# Altium footprint library KK_Triangle_cubic.PcbLib: 16 footprints
Each footprint in its own frame and in the unit in brackets; x right, y up, seen from the top. Pads: shape width x height; smd on the part's side, far side on the other; paste and mask are expansions set on the pad; w line width, h text height; cw(c..) or ccw(c..) is an arc to the next point about the centre after c.
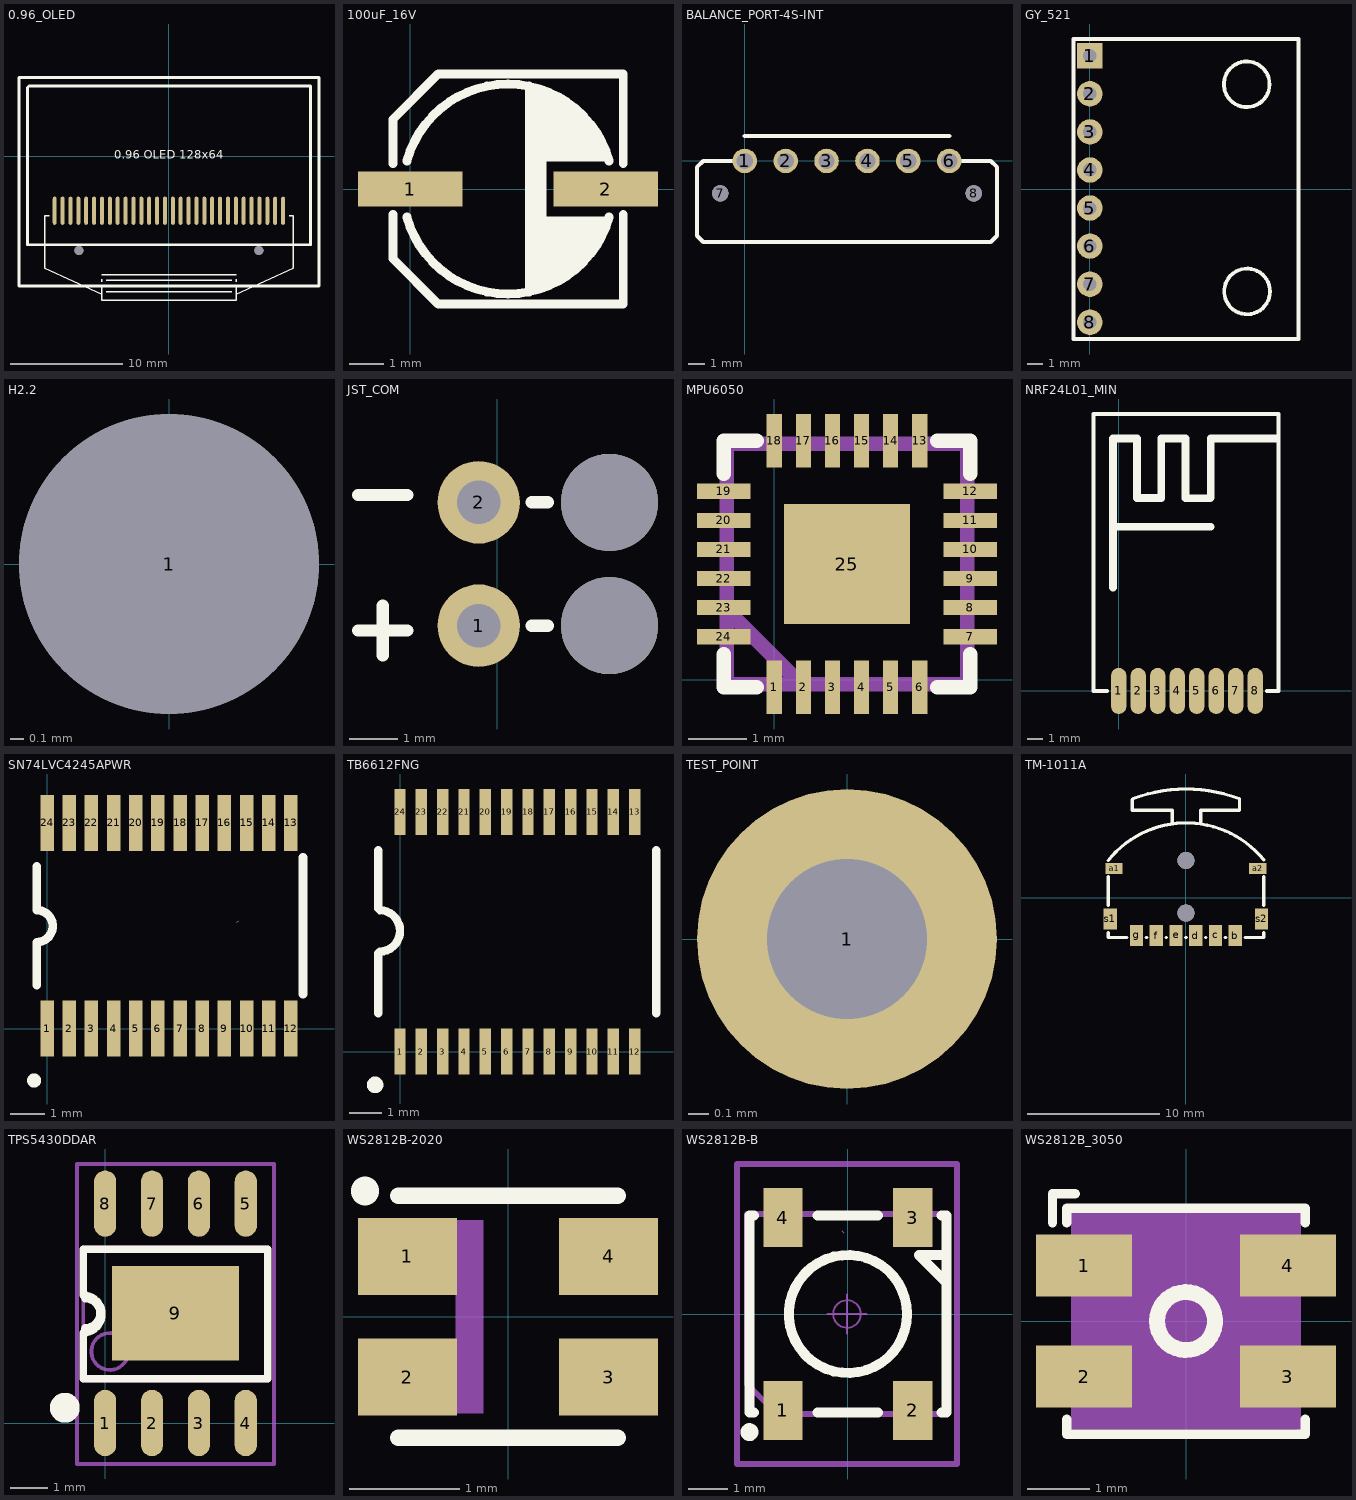
[diagram p0: the footprints below, top view; thin cyan lines are the x and y axes]

## 0.96_OLED [mm] "QG-2864KSWEG01"
pads (32):
  oval 0.351x2.499 smd: 1(-10.149,-4.824) 2(-9.449,-4.826) 3(-8.749,-4.826) 4(-8.049,-4.826) 5(-7.349,-4.826) 6(-6.649,-4.826) 7(-5.949,-4.826) 8(-5.25,-4.826) 9(-4.55,-4.826) 10(-3.85,-4.826) 11(-3.15,-4.826) 12(-2.45,-4.826) 13(-1.75,-4.826) 14(-1.05,-4.826) 15(-0.35,-4.826) 16(0.35,-4.826) 17(1.05,-4.826) 18(1.75,-4.826) 19(2.45,-4.826) 20(3.15,-4.826) 21(3.85,-4.826) 22(4.55,-4.826) 23(5.25,-4.826) 24(5.949,-4.826) 25(6.649,-4.826) 26(7.349,-4.826) 27(8.049,-4.826) 28(8.749,-4.828) 29(9.449,-4.829) 30(10.149,-4.829)
  round 0.8 hole 0.8 unplated: ""(-8,-8.358) ""(8,-8.358)
Top Overlay:
  lines w0: -11.038,-8.825 -11.038,-8.812 -11.038,-8.825
  lines w0.127: -11.038,-8.825 -11.038,-9.917 -5.958,-12.243 ; -11.038,-8.812 -11.038,-5.256 -10.657,-5.256 ; -5.958,-11.53 -5.958,-12.8 5.98,-12.8 5.98,-11.53 ; -5.958,-11.149 -5.958,-10.895 ; -5.958,-10.514 5.98,-10.514 ; -5.577,-12.038 5.599,-12.038 ; -5.577,-11.022 5.599,-11.022 ; 5.98,-12.243 11.06,-9.92 11.06,-9.906 11.06,-8.814 11.06,-8.812 11.06,-5.256 10.679,-5.256 ; 5.98,-11.149 5.98,-10.895
  lines w0.254: -13.324,-11.53 13.346,-11.53 13.346,7.012 -13.324,7.012 -13.324,-11.53 ; -12.562,-7.847 12.584,-7.847 12.584,6.25 -12.435,6.25 -12.562,6.123 -12.562,-7.553 -12.562,-7.847
  text "0.96 OLED 128x64" at -4.851,-0.483 h1.27

## 100uF_16V [mm] "CAP-SMD_BD6.3-L6.6-W6.6-FD"
pads (2):
  rect 3x1 smd: 1(0,0) 2(5.6,0)
Top Overlay:
  region: 3.3,-3 3.3,2.9 3.3,3 3.3,2.9 3.9,2.8 4.4,2.6 4.7,2.3 5,2.1 5.3,1.8 5.5,1.4 5.7,0.8 3.9,0.8 3.9,-0.8 5.7,-0.8 5.6,-1 5.5,-1.4 5.2,-1.7 5,-2.1 4.6,-2.4 4.2,-2.6 3.8,-2.8
  lines w0.254: -0.497,-0.732 -0.497,-1.999 0.804,-3.299 6.102,-3.299 6.102,-0.732 ; -0.497,0.732 -0.497,1.999 0.804,3.299 6.102,3.299 6.102,0.732 ; -0.1,-0.8 ccw(c2.8,0) 5.7,-0.8 ; -0.1,0.8 cw(c2.8,0) 5.7,0.8
Mechanical 15:
  lines w0.003: 4.426,0.102 4.476,0.152

## BALANCE_PORT-4S-INT [mm] "BALANCE_PORT-4S-INT"
pads (8):
  round 1.5 hole 1 unplated: 1(0,0) 2(2.5,0) 3(5,0) 4(7.5,0) 5(10,0) 6(12.5,0)
  round 1 hole 1 unplated: 7(-1.5,-1.98) 8(14,-1.98)
Top Overlay:
  lines w0.254: 0,1.524 12.5,1.524 ; 0.635,0 -0.762,0 -1.905,0 -2.54,0 -2.921,-0.381 -2.921,-4.572 -2.54,-4.953 3.175,-4.953 12.573,-4.953 ; 12.5,-4.953 15.04,-4.953 15.421,-4.572 15.421,-0.381 15.04,0 12.5,0

## GY_521 [mm] "MPU6050"
pads (8):
  rect 1.7x1.7 hole 0.9: 1(0,8.89)
  round 1.7 hole 0.9: 2(0,6.35) 3(0,3.81) 4(0,1.27) 5(0,-1.27) 6(0,-3.81) 7(0,-6.35) 8(0,-8.89)
Top Overlay:
  circle w0.254: c10.465,6.985 r1.524
  circle w0.254: c10.49,-6.833 r1.524
  lines w0.254: -1.092,-10.008 13.919,-10.008 13.919,10.008 -1.092,10.008 -1.092,-10.008

## H2.2 [mm] "H2.5"
pads (1):
  round 2.2 hole 2.2: 1(0,0)

## JST_COM [mm] "JST_COM"
pads (4):
  round 1.7 hole 0.9: 1(-0.381,17.932) 2(-0.381,20.472)
  round 2 hole 2: ""(2.311,17.932) ""(2.311,20.472)
Top Overlay:
  lines w0.254: -2.87,17.831 -1.854,17.831 ; -2.87,20.625 -1.854,20.625 ; -2.362,17.323 -2.362,18.339 ; 0.711,17.932 1.041,17.932 ; 0.711,20.472 1.041,20.472

## MPU6050 [mil] "QFN50P400X400X95-25T265X275N"
pads (25):
  rect 10.2x36.1 smd: 1(0,-5) 2(19.6,-5) 3(39.2,-5) 4(58.8,-5) 5(78.4,-5) 6(98,-5) 13(98,161) 14(78.4,161) 15(58.8,161) 16(39.2,161) 17(19.6,161) 18(0,161)
  rect 36.1x10.2 smd: 7(132,29) 8(132,48.6) 9(132,68.2) 10(132,87.8) 11(132,107.4) 12(132,127) 19(-34,127) 20(-34,107.4) 21(-34,87.8) 22(-34,68.2) 23(-34,48.6) 24(-34,29)
  rect 84.6x80.65 smd: 25(49,77.97)
Top Overlay:
  lines w10: -34,17 -34,-5 -12,-5 ; -34,139 -34,161 -12,161 ; 110,-5 132,-5 132,17 ; 110,161 132,161 132,139
Mechanical 15:
  lines w10: -32,47 18,-3 ; -32,47 -32,159 130,159 130,-3 18,-3 ; -32,47 -32,-3 18,-3

## NRF24L01_MIN [mm] "NRF24L01_MIN"
pads (8):
  oval 1x3 smd: 1(0,0) 2(1.27,0) 3(2.54,0) 4(3.81,0) 5(5.08,0) 6(6.35,0) 7(7.62,0) 8(8.89,0)
Top Overlay:
  lines w0.254: -1.651,0 -1.651,11.5 ; -1.651,11.43 -1.651,18.034 10.414,18.034 ; -1.6,0 -0.762,0 ; 9.652,0 10.4,0 ; 10.414,0 10.414,18
  lines w0.508: -0.381,6.731 -0.381,16.434 1.194,16.434 1.194,12.573 2.769,12.573 2.769,16.434 4.343,16.434 4.343,12.573 4.369,12.548 5.944,12.548 5.994,12.598 5.994,16.434 10.287,16.434 ; -0.381,10.693 5.969,10.693

## SN74LVC4245APWR [mm] "TSSOP-24_L7.8-W4.4-P0.65-LS6.4-BL"
pads (24):
  rect 0.4x1.65 smd: 1(0,0) 2(0.651,0) 3(1.302,0) 4(1.953,0) 5(2.605,0) 6(3.256,0) 7(3.907,0) 8(4.558,0) 9(5.209,0) 10(5.86,0) 11(6.512,0) 12(7.163,0) 13(7.163,6.045) 14(6.512,6.045) 15(5.86,6.045) 16(5.209,6.045) 17(4.558,6.045) 18(3.907,6.045) 19(3.256,6.045) 20(2.605,6.045) 21(1.953,6.045) 22(1.302,6.045) 23(0.651,6.045) 24(0,6.045)
Top Overlay:
  circle w0.254: c-0.381,-1.524 r0.08
  lines w0.254: -0.305,1.27 -0.305,2.54 ccw(c-0.305,3.01) -0.305,3.48 ; -0.305,3.505 -0.305,4.775 ; 7.518,1.015 7.518,5.03
Mechanical 15:
  lines w0.003: 5.573,3.124 5.624,3.175

## TB6612FNG [mil] "SSOP24"
pads (24):
  rect 13.7x55 smd: 1(0,0) 2(25.64,0) 3(51.27,0) 4(76.91,0) 5(102.55,0) 6(128.18,0) 7(153.82,0) 8(179.45,0) 9(205.09,0) 10(230.73,0) 11(256.36,0) 12(282,0) 13(282,288) 14(256.36,288) 15(230.73,288) 16(205.09,288) 17(179.45,288) 18(153.82,288) 19(128.18,288) 20(102.55,288) 21(76.91,288) 22(51.27,288) 23(25.64,288) 24(0,288)
Top Overlay:
  circle w10: c-30,-40 r5
  lines w10: -26,46 -26,118.02 -24,120.02 ccw(c-25,145) -24,169.98 ; -26,171.98 -26,242 ; 308,46 308,242

## TEST_POINT [mm] "TEST_POINT"
pads (1):
  round 1.5 hole 0.8: 1(0,0)

## TM-1011A [mm] "TM-1011A"
height 3
pads (12):
  rect 1.3x0.8 smd: a1(-5.45,2.238) a2(5.45,2.238)
  rect 1x1.6 smd: b(3.75,-2.853) c(2.25,-2.853) d(0.75,-2.853) e(-0.75,-2.853) f(-2.25,-2.853) g(-3.75,-2.853) s1(-5.75,-1.597) s2(5.75,-1.597)
  round 1.3 hole 1.3 unplated: ""(0,-1.147) ""(0,2.853)
Top Overlay:
  lines w0.254: -5.9,-2.628 -5.9,-3.002 -4.481,-3.002 ; -5.9,-0.566 -5.9,1.618 ; -5.9,2.848 cw(c0.02,-1.867) 5.9,2.898 5.9,2.88 ; -3.019,-3.002 -2.981,-3.002 ; -1.519,-3.002 -1.481,-3.002 ; -1.039,5.731 -1.044,6.13 -1.044,6.664 -4.067,6.664 -4.067,7.481 -4,7.548 cw(c0.004,-3.116) 3.997,7.552 ; -0.019,-3.002 0.019,-3.002 ; 1.125,6.022 1.125,5.622 1.125,6.346 ; 1.125,6.122 1.125,6.664 4.061,6.664 4.061,7.552 3.997,7.552 ; 1.481,-3.002 1.519,-3.002 ; 2.981,-3.002 3.019,-3.002 ; 4.481,-3.002 5.9,-3.002 5.9,-2.628 ; 5.9,-0.566 5.9,1.618
Mechanical 15:
  lines w0.003: 0,2.777 0,2.777

## TPS5430DDAR [mm] "TPS5430DDAR"
pads (9):
  oval 0.6x1.798 smd: 1(0,0) 2(1.27,0) 3(2.54,0) 4(3.81,0) 5(3.81,5.944) 6(2.54,5.944) 7(1.27,5.944) 8(0,5.944)
  rect 3.45x2.56 smd: 9(1.905,2.972)
Top Overlay:
  circle w0.5: c-1.095,0.413 r0.155
  lines w0.2: -0.595,1.201 4.405,1.201 4.405,4.706 -0.595,4.706
  lines w0.203: -0.595,1.201 -0.595,2.445 ccw(c-0.595,2.953) -0.087,2.953 ccw(c-0.595,2.953) -0.595,3.461 -0.595,4.706
  lines w0.254: -0.533,2.555 ccw(c-0.533,2.973) -0.533,3.392
Mechanical 13:
  circle w0.1: c0.127,1.937 r0.5
  lines w0.1: -0.595,1.153 4.405,1.153 4.405,4.753 -0.595,4.753 -0.595,1.153
Mechanical 15:
  circle w0.05: c1.905,2.953 r0.35
  lines w0.003: 1.716,3.265 1.767,3.316
  lines w0.05: 1.405,2.953 2.405,2.953 ; 1.905,2.453 1.905,3.453
  lines w0.1: -0.762,-1.111 4.572,-1.111 4.572,7.017 -0.762,7.017 -0.762,-1.111
3D body "SOP8.STEP": height 1.9, standoff 0, extent -0.595,-0.049 4.405,5.956

## WS2812B-2020 [mm] "WS2812B-2020"
pads (4):
  rect 0.9x0.7 smd: 1(-0.915,0.55) 2(-0.915,-0.55) 3(0.915,-0.55) 4(0.915,0.55)
Top Overlay:
  lines w0.152: -1,-1.1 1,-1.1 ; -1,1.1 1,1.1
  lines w0.254: -1.3,1.138 -1.3,1.15
Mechanical 15:
  region: -0.82,-0.38 -0.58,-0.38 -0.58,-0.56 -0.79,-0.56 -0.79,-0.67 -0.58,-0.67 -0.58,-0.72 -0.82,-0.72 -0.83,-0.72 -0.83,-0.71 -0.83,-0.52 -0.61,-0.52 -0.61,-0.42 -0.83,-0.42 -0.83,-0.38
  region: -1.18,-0.665 -0.94,-0.665 -0.94,-0.715 -1.18,-0.715
  region: 0.655,0.455 0.655,0.695 0.705,0.695 0.705,0.455
  region: 0.56,0.6 0.8,0.6 0.8,0.55 0.56,0.55
  region: -0.225,0.88 -0.225,-0.88 -0.475,-0.88 -0.475,0.88
  region: 0.95,0.75 0.95,0.45 1.1,0.45 1.1,0.35 1.15,0.35 1.15,0.45 1.25,0.45 1.25,0.5 1.15,0.5 1.15,0.65 1.1,0.65 1.1,0.5 1,0.5 1,0.75
  region: -0.8,0.7 -0.85,0.65 -0.85,0.35 -0.8,0.3 -0.6,0.3 -0.55,0.35 -0.55,0.65 -0.6,0.7 -0.7,0.7 -0.7,0.65 -0.6,0.65 -0.6,0.35 -0.8,0.35 -0.8,0.65 -0.75,0.65 -0.75,0.7
  region: -1.175,0.7 -1.175,0.3 -1.025,0.3 -0.975,0.3 -0.925,0.35 -0.925,0.65 -0.975,0.7 -1.075,0.7 -1.075,0.65 -0.975,0.65 -0.975,0.35 -1.125,0.35 -1.125,0.7
  region: 0.55,-0.35 0.55,-0.75 0.7,-0.75 0.75,-0.75 0.8,-0.7 0.8,-0.4 0.75,-0.35 0.65,-0.35 0.65,-0.4 0.75,-0.4 0.75,-0.7 0.6,-0.7 0.6,-0.35
  region: 0.925,-0.75 0.925,-0.7 0.975,-0.7 0.975,-0.4 0.925,-0.4 0.925,-0.35 1.075,-0.35 1.075,-0.4 1.025,-0.4 1.025,-0.7 1.075,-0.7 1.075,-0.75

## WS2812B-B [mm] "LED-SMD_4P-L5.0-W5.0-TL_WS2812B-B"
pads (4):
  rect 0.998x1.499 smd: 1(-1.65,-2.45) 2(1.65,-2.45) 3(1.65,2.45) 4(-1.65,2.45)
Top Overlay:
  circle w0.254: c0,0.001 r1.5
  circle w0.254: c-2.5,-3 r0.1
  lines w0.254: -2.38,-2.5 -2.5,-2.5 -2.5,2.5 -2.38,2.5 ; -0.77,-2.5 0.77,-2.5 ; -0.77,2.5 0.77,2.5 ; 2.38,-2.5 2.5,-2.5 2.5,2.5 2.38,2.5 ; 1.8,1.5 2.5,1.5 2.5,0.8 1.8,1.5
Mechanical 13:
  lines w0.15: -2.563,-1.777 -2.563,2.541 2.517,2.541 2.517,-2.539 -1.801,-2.539 -2.563,-1.777
Mechanical 15:
  circle w0.05: c-0.023,0.001 r0.35
  lines w0.003: -0.152,2.12 -0.102,2.069
  lines w0.05: -0.523,0.001 0.477,0.001 ; -0.023,-0.499 -0.023,0.501
  lines w0.15: -2.817,-3.809 2.771,-3.809 2.771,3.811 -2.817,3.811 -2.817,-3.809
3D body "LED 5050 透明胶.STEP": height 1.65, standoff 0.77, extent -2.019,-1.994 1.971,1.996
3D body "LED 5050 基体.STEP": height 1.65, standoff 0.05, extent -2.523,-2.699 2.477,2.701

## WS2812B_3050 [mm]
pads (4):
  rect 1.545x0.997 smd: 1(-1.638,0.89) 2(-1.638,-0.89) 3(1.638,-0.89) 4(1.638,0.89)
Top Overlay:
  lines w0.152: -2.145,1.579 -2.145,2.045 -1.777,2.045 ; -1.916,-1.579 -1.916,-1.816 1.916,-1.816 1.916,-1.579 ; -1.916,1.579 -1.916,1.816 1.916,1.816 1.916,1.579
  lines w0.254: 0.465,-0.027 cw(c0,0) 0.465,0.025
Mechanical 4:
  region: -1.84,1.74 1.84,1.74 1.84,-1.74 -1.84,-1.74
Mechanical 5:
  region: 1.84,1.29 0.89,1.29 0.89,0.49 1.84,0.49
  region: 1.84,-0.49 0.89,-0.49 0.89,-1.29 1.84,-1.29
  region: -1.84,-0.49 -0.89,-0.49 -0.89,-1.29 -1.84,-1.29
  region: -1.84,1.29 -0.89,1.29 -0.89,0.49 -1.84,0.49
Mechanical 6:
  circle w0.06: c1.84,-1.74 r0.03
Mechanical 15:
  drawing of 101 lines, arcs and shapes, not listed
3D body "LED 3528 透明胶.ST": height 1.95, standoff 1.2, extent -1.195,-1.195 1.195,1.195
3D body "LED 3528-4Pin 基体.STEP": height 1.95, standoff 0.05, extent -1.75,-1.4 1.75,1.4